# Altium footprint library Diode.PcbLib: 8 footprints
Each footprint in its own frame and in the unit in brackets; x right, y up, seen from the top. Pads: shape width x height; smd on the part's side, far side on the other; paste and mask are expansions set on the pad; w line width, h text height; cw(c..) or ccw(c..) is an arc to the next point about the centre after c.
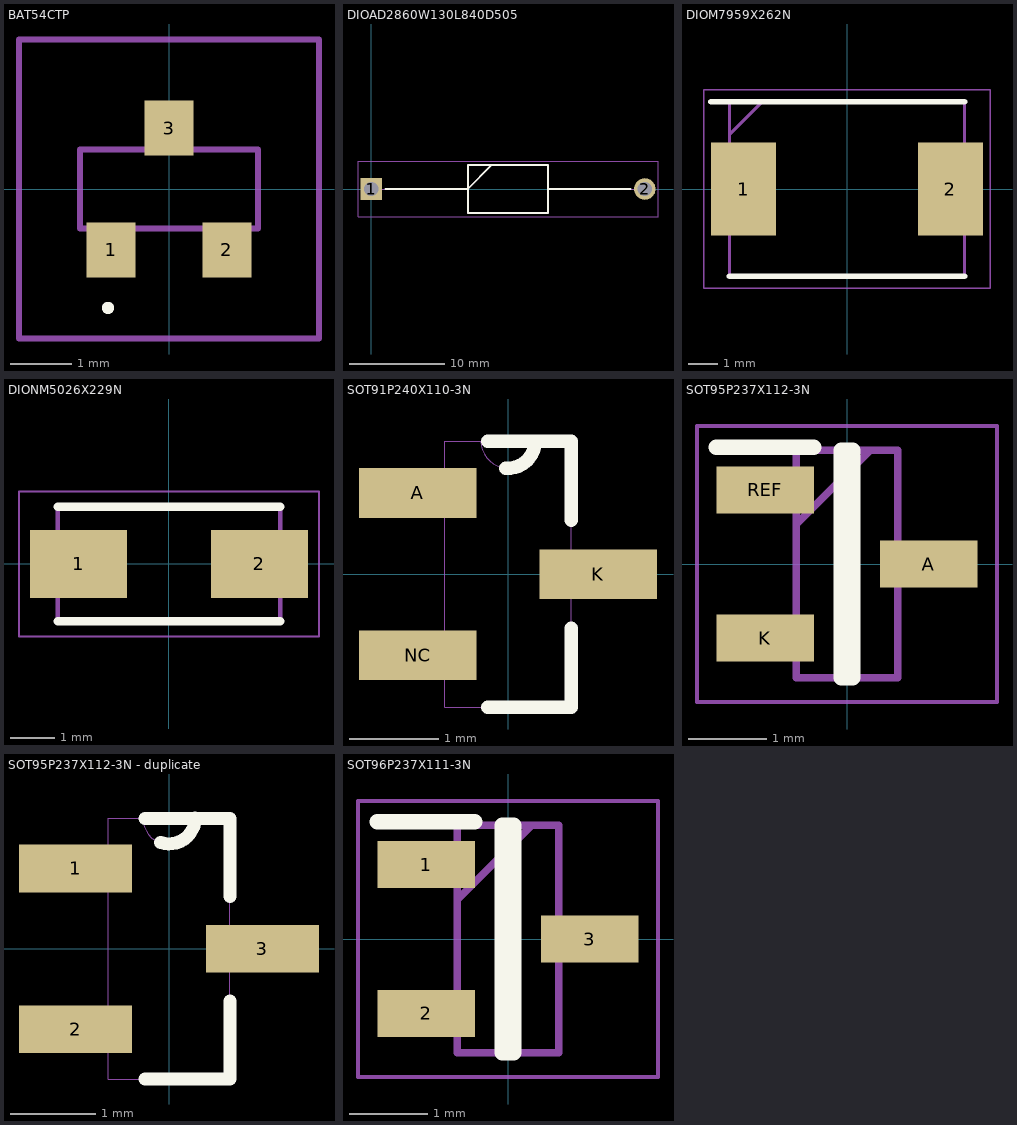
[diagram p0: the footprints below, top view; thin cyan lines are the x and y axes]

## BAT54CTP [mm]
pads (3):
  rect 0.8x0.9 smd: 1(-0.95,-1) 2(0.95,-1) 3(0,1)
Top Overlay:
  lines w0.1: -1,-2 ccw(c-1,-1.95) -1,-1.9 ccw(c-1,-1.95) -1,-2
Mechanical 15:
  lines w0.1: -1.46,-0.65 1.46,-0.65 1.46,0.65 -1.46,0.65 -1.46,-0.65
Mechanical 20:
  lines w0.1: -2.46,-2.45 2.46,-2.45 2.46,2.45 -2.46,2.45 -2.46,-2.45
3D body "BAT54C-TP.stp": height 1.35, standoff 0, extent -1.46,-1.37 1.46,1.37

## DIOAD2860W130L840D505 [mm]
pads (2):
  rect 2.25x2.25 / inner round 2.25 / far side rect 2.25x2.25 hole 1.5: 1(0,0)
  round 2.25 hole 1.5: 2(28.6,0)
Top Overlay:
  lines w0.2: 1.475,0 10.1,0 12.625,2.525 ; 18.5,0 27.125,0 ; 10.1,-2.525 10.1,2.525 18.5,2.525 18.5,-2.525 10.1,-2.525
Mechanical 15:
  lines w0.1: 0,0 10.1,0 12.625,2.525 ; 18.5,0 28.6,0 ; 10.1,-2.525 10.1,2.525 18.5,2.525 18.5,-2.525 10.1,-2.525
Mechanical 20:
  lines w0.05: -1.375,-2.875 -1.375,2.875 29.975,2.875 29.975,-2.875 -1.375,-2.875
3D body "1N5402.stp": height 5.3, standoff -5.3, extent -0.645,-2.65 29.25,2.65

## DIOM7959X262N [mm]
pads (2):
  rect 2.2x3.15 smd: 1(-3.5,0) 2(3.5,0)
Top Overlay:
  lines w0.2: -4.6,2.952 3.97,2.952 ; -3.97,-2.952 3.97,-2.952
Mechanical 15:
  lines w0.1: -3.97,1.852 -2.87,2.952 ; -3.97,-2.952 3.97,-2.952 3.97,2.952 -3.97,2.952 -3.97,-2.952
Mechanical 20:
  lines w0.05: -4.85,-3.36 4.85,-3.36 4.85,3.36 -4.85,3.36 -4.85,-3.36
3D body "SK4200L-TP.stp": height 2.62, standoff 0, extent -3.843,-2.984 4.097,2.921

## DIONM5026X229N [mm]
pads (2):
  rect 2.2x1.55 smd: 1(-2.05,0) 2(2.05,0)
Top Overlay:
  lines w0.2: -2.52,-1.298 2.52,-1.298 ; -2.52,1.298 2.52,1.298
Mechanical 15:
  lines w0.1: -2.52,-1.298 -2.52,1.298 2.52,1.298 2.52,-1.298 -2.52,-1.298
Mechanical 20:
  lines w0.05: -3.4,-1.645 -3.4,1.645 3.4,1.645 3.4,-1.645 -3.4,-1.645
3D body "SMAJ10CA.stp": height 2.29, standoff 0, extent -2.54,-1.297 2.5,1.297

## SOT91P240X110-3N [mil]
pads (3):
  rect 52x22 smd: A(-40,36) K(40,0) NC(-40,-36)
Top Overlay:
  lines w6: -9,-59 28,-59 28,-24 ; -9,59 12,59 28,59 28,24 ; -1.04,47 ccw(c0,58.96) 12,58.96
Mechanical 13:
  lines w0: -28,-46 -28,-59 28,-59 28,-10 ; -28,-46 -28,-26 ; -28,-46 -49,-46 -49,-26 -28,-26 ; -28,-26 -28,26 ; -28,26 -28,46 ; -28,26 -49,26 -49,46 -28,46 ; -28,46 -28,59 -12,59 ; -12,59 ccw(c0,59) 12,59 ; -12,59 12,59 ; 12,59 28,59 28,10 ; 28,-10 28,10 ; 28,-10 49,-10 49,10 28,10
3D body "BAT54C-TP.stp": height 53.15, standoff 0, extent -53.93,-57.48 53.94,57.48

## SOT95P237X112-3N [mm]
pads (3):
  rect 1.25x0.6 smd: A(1.05,0) K(-1.05,-0.95) REF(-1.05,0.95)
Top Overlay:
  lines w0.2: -1.675,1.5 -0.425,1.5 ; -0.075,-1.46 0.075,-1.46 0.075,1.46 -0.075,1.46 -0.075,-1.46
Mechanical 15:
  lines w0.1: -0.65,0.51 0.3,1.46 ; -0.65,-1.46 0.65,-1.46 0.65,1.46 -0.65,1.46 -0.65,-1.46
Mechanical 20:
  lines w0.05: -1.925,-1.77 1.925,-1.77 1.925,1.77 -1.925,1.77 -1.925,-1.77
3D body "TL432BIDBZR.stp": height 1, standoff 0, extent -1.27,-1.46 1.27,1.46

## SOT95P237X112-3N - duplicate [mil]
pads (3):
  rect 52x22 smd: 1(-43,37) 2(-43,-37) 3(43,0)
Top Overlay:
  lines w6: -11,-60 28,-60 28,-24 ; -11,60 12,60 28,60 28,24 ; -3.9,48.96 ccw(c0.15,60.1) 12,60.1
Mechanical 13:
  lines w0: -28,-47 -28,-60 28,-60 28,-10 ; -28,-47 -28,-27 ; -28,-47 -52,-47 -52,-27 -28,-27 ; -28,-27 -28,27 ; -28,27 -28,47 ; -28,27 -52,27 -52,47 -28,47 ; -28,47 -28,60 -12,60 ; -12,60 ccw(c0,60) 12,60 ; -12,60 12,60 ; 12,60 28,60 28,10 ; 28,-10 28,10 ; 28,-10 52,-10 52,10 28,10
3D body "SM712.TCT.stp": height 44.09, standoff 0, extent -46.64,-57.47 46.66,57.49

## SOT96P237X111-3N [mm]
pads (3):
  rect 1.25x0.6 smd: 1(-1.05,0.955) 2(-1.05,-0.955) 3(1.05,0)
Top Overlay:
  lines w0.2: -1.675,1.505 -0.425,1.505 ; -0.075,-1.46 -0.075,1.46 0.075,1.46 0.075,-1.46 -0.075,-1.46
Mechanical 15:
  lines w0.1: -0.65,0.505 0.305,1.46 ; -0.65,-1.46 -0.65,1.46 0.65,1.46 0.65,-1.46 -0.65,-1.46
Mechanical 20:
  lines w0.05: -1.925,-1.77 -1.925,1.77 1.925,1.77 1.925,-1.77 -1.925,-1.77
3D body "BAT54C-TP.stp": height 1.35, standoff 0, extent -1.37,-1.46 1.37,1.46